# Altium schematic symbol library WA-SMSI_M2 Thread Internal.SchLib: 24 symbols
Pins are listed as number, name and electrical type; pins without a type are passive.

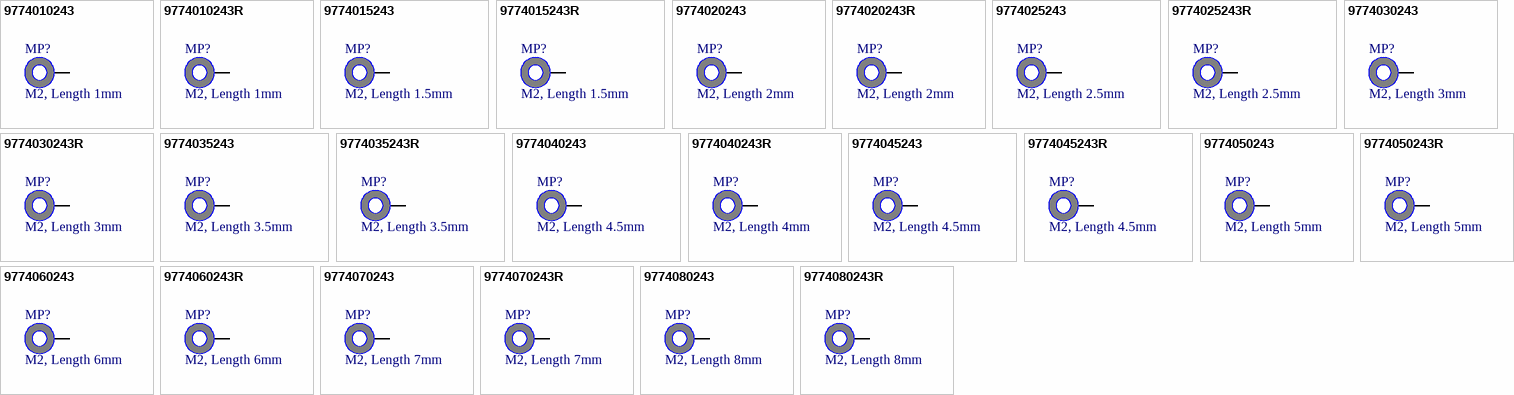
[diagram p0: symbols 9774010243 to 9774080243R]

## 9774010243
designator MP?, comment M2, Length 1mm
WA-SMSI SMT Steel Spacer, M2 Thread Internal, Length 1mm; PartNumber: 9774010243; InnerDiameter: 2.8mm; OuterDiameter: 4.35mm; PublishedDate: Dec. 2016; Publisher: Wurth Elektronik; ComponentLink1Description: Manufacturer; ComponentLink1URL: http://www.we-online.de; ComponentLink2Description: Datasheet; ComponentLink2URL: http://katalog.we-online.de/em/datasheet/9774010243.pdf; Length: 1mm; Thread: M2; Packaging: Bulk
footprint 9774010243
pins: 1

## 9774010243R
designator MP?, comment M2, Length 1mm
WA-SMSI SMT Steel Spacer, M2 Thread Internal, Length 1mm; PartNumber: 9774010243R; InnerDiameter: 2.8mm; OuterDiameter: 4.35mm; PublishedDate: Dec. 2016; Publisher: Wurth Elektronik; ComponentLink1Description: Manufacturer; ComponentLink1URL: http://www.we-online.de; ComponentLink2Description: Datasheet; ComponentLink2URL: http://katalog.we-online.de/em/datasheet/9774010243R.pdf; Length: 1mm; Thread: M2; Packaging: Tape and Reel
footprint 9774010243
pins: 1

## 9774015243
designator MP?, comment M2, Length 1.5mm
WA-SMSI SMT Steel Spacer, M2 Thread Internal, Length 1.5mm; PartNumber: 9774015243; InnerDiameter: 2.8mm; OuterDiameter: 4.35mm; PublishedDate: Dec. 2016; Publisher: Wurth Elektronik; ComponentLink1Description: Manufacturer; ComponentLink1URL: http://www.we-online.de; ComponentLink2Description: Datasheet; ComponentLink2URL: http://katalog.we-online.de/em/datasheet/9774015243.pdf; Length: 1.5mm; Thread: M2; Packaging: Bulk
footprint 9774015243
pins: 1

## 9774015243R
designator MP?, comment M2, Length 1.5mm
WA-SMSI SMT Steel Spacer, M2 Thread Internal, Length 1.5mm; PartNumber: 9774015243R; InnerDiameter: 2.8mm; OuterDiameter: 4.35mm; PublishedDate: Dec. 2016; Publisher: Wurth Elektronik; ComponentLink1Description: Manufacturer; ComponentLink1URL: http://www.we-online.de; ComponentLink2Description: Datasheet; ComponentLink2URL: http://katalog.we-online.de/em/datasheet/9774015243R.pdf; Length: 1.5mm; Thread: M2; Packaging: Tape and Reel
footprint 9774015243
pins: 1

## 9774020243
designator MP?, comment M2, Length 2mm
WA-SMSI SMT Steel Spacer, M2 Thread Internal, Length 2mm; PartNumber: 9774020243; InnerDiameter: 2.8mm; OuterDiameter: 4.35mm; PublishedDate: Dec. 2016; Publisher: Wurth Elektronik; ComponentLink1Description: Manufacturer; ComponentLink1URL: http://www.we-online.de; ComponentLink2Description: Datasheet; ComponentLink2URL: http://katalog.we-online.de/em/datasheet/9774020243.pdf; Length: 2mm; Thread: M2; Packaging: Bulk
footprint 9774020243
pins: 1

## 9774020243R
designator MP?, comment M2, Length 2mm
WA-SMSI SMT Steel Spacer, M2 Thread Internal, Length 2mm; PartNumber: 9774020243R; InnerDiameter: 2.8mm; OuterDiameter: 4.35mm; PublishedDate: Dec. 2016; Publisher: Wurth Elektronik; ComponentLink1Description: Manufacturer; ComponentLink1URL: http://www.we-online.de; ComponentLink2Description: Datasheet; ComponentLink2URL: http://katalog.we-online.de/em/datasheet/9774020243R.pdf; Length: 2mm; Thread: M2; Packaging: Tape and Reel
footprint 9774020243
pins: 1

## 9774025243
designator MP?, comment M2, Length 2.5mm
WA-SMSI SMT Steel Spacer, M2 Thread Internal, Length 2.5mm; PartNumber: 9774025243; InnerDiameter: 2.8mm; OuterDiameter: 4.35mm; PublishedDate: Dec. 2016; Publisher: Wurth Elektronik; ComponentLink1Description: Manufacturer; ComponentLink1URL: http://www.we-online.de; ComponentLink2Description: Datasheet; ComponentLink2URL: http://katalog.we-online.de/em/datasheet/9774025243.pdf; Length: 2.5mm; Thread: M2; Packaging: Bulk
footprint 9774025243
pins: 1

## 9774025243R
designator MP?, comment M2, Length 2.5mm
WA-SMSI SMT Steel Spacer, M2 Thread Internal, Length 2.5mm; PartNumber: 9774025243R; InnerDiameter: 2.8mm; OuterDiameter: 4.35mm; PublishedDate: Dec. 2016; Publisher: Wurth Elektronik; ComponentLink1Description: Manufacturer; ComponentLink1URL: http://www.we-online.de; ComponentLink2Description: Datasheet; ComponentLink2URL: http://katalog.we-online.de/em/datasheet/9774025243R.pdf; Length: 2.5mm; Thread: M2; Packaging: Tape and Reel
footprint 9774025243
pins: 1

## 9774030243
designator MP?, comment M2, Length 3mm
WA-SMSI SMT Steel Spacer, M2 Thread Internal, Length 3mm; PartNumber: 9774030243; InnerDiameter: 2.8mm; OuterDiameter: 4.35mm; PublishedDate: Dec. 2016; Publisher: Wurth Elektronik; ComponentLink1Description: Manufacturer; ComponentLink1URL: http://www.we-online.de; ComponentLink2Description: Datasheet; ComponentLink2URL: http://katalog.we-online.de/em/datasheet/9774030243.pdf; Length: 3mm; Thread: M2; Packaging: Bulk
footprint 9774030243
pins: 1

## 9774030243R
designator MP?, comment M2, Length 3mm
WA-SMSI SMT Steel Spacer, M2 Thread Internal, Length 3mm; PartNumber: 9774030243R; InnerDiameter: 2.8mm; OuterDiameter: 4.35mm; PublishedDate: Dec. 2016; Publisher: Wurth Elektronik; ComponentLink1Description: Manufacturer; ComponentLink1URL: http://www.we-online.de; ComponentLink2Description: Datasheet; ComponentLink2URL: http://katalog.we-online.de/em/datasheet/9774030243R.pdf; Length: 3mm; Thread: M2; Packaging: Tape and Reel
footprint 9774030243
pins: 1

## 9774035243
designator MP?, comment M2, Length 3.5mm
WA-SMSI SMT Steel Spacer, M2 Thread Internal, Length 3.5mm; PartNumber: 9774035243; InnerDiameter: 2.8mm; OuterDiameter: 4.35mm; PublishedDate: Dec. 2016; Publisher: Wurth Elektronik; ComponentLink1Description: Manufacturer; ComponentLink1URL: http://www.we-online.de; ComponentLink2Description: Datasheet; ComponentLink2URL: http://katalog.we-online.de/em/datasheet/9774035243.pdf; Length: 3.5mm; Thread: M2; Packaging: Bulk
footprint 9774035243
pins: 1

## 9774035243R
designator MP?, comment M2, Length 3.5mm
WA-SMSI SMT Steel Spacer, M2 Thread Internal, Length 3.5mm; PartNumber: 9774035243R; InnerDiameter: 2.8mm; OuterDiameter: 4.35mm; PublishedDate: Dec. 2016; Publisher: Wurth Elektronik; ComponentLink1Description: Manufacturer; ComponentLink1URL: http://www.we-online.de; ComponentLink2Description: Datasheet; ComponentLink2URL: http://katalog.we-online.de/em/datasheet/9774035243R.pdf; Length: 3.5mm; Thread: M2; Packaging: Tape and Reel
footprint 9774035243
pins: 1

## 9774040243
designator MP?, comment M2, Length 4.5mm
WA-SMSI SMT Steel Spacer, M2 Thread Internal, Length 4mm; PartNumber: 9774040243; InnerDiameter: 2.8mm; OuterDiameter: 4.35mm; PublishedDate: Dec. 2016; Publisher: Wurth Elektronik; ComponentLink1Description: Manufacturer; ComponentLink1URL: http://www.we-online.de; ComponentLink2Description: Datasheet; ComponentLink2URL: http://katalog.we-online.de/em/datasheet/9774040243.pdf; Length: 4mm; Thread: M2; Packaging: Bulk
footprint 9774040243
pins: 1

## 9774040243R
designator MP?, comment M2, Length 4mm
WA-SMSI SMT Steel Spacer, M2 Thread Internal, Length 4mm; PartNumber: 9774040243R; InnerDiameter: 2.8mm; OuterDiameter: 4.35mm; PublishedDate: Dec. 2016; Publisher: Wurth Elektronik; ComponentLink1Description: Manufacturer; ComponentLink1URL: http://www.we-online.de; ComponentLink2Description: Datasheet; ComponentLink2URL: http://katalog.we-online.de/em/datasheet/9774040243R.pdf; Length: 4mm; Thread: M2; Packaging: Tape and Reel
footprint 9774040243
pins: 1

## 9774045243
designator MP?, comment M2, Length 4.5mm
WA-SMSI SMT Steel Spacer, M2 Thread Internal, Length 4.5mm; PartNumber: 9774045243; InnerDiameter: 2.8mm; OuterDiameter: 4.35mm; PublishedDate: Dec. 2016; Publisher: Wurth Elektronik; ComponentLink1Description: Manufacturer; ComponentLink1URL: http://www.we-online.de; ComponentLink2Description: Datasheet; ComponentLink2URL: http://katalog.we-online.de/em/datasheet/9774045243.pdf; Length: 4.5mm; Thread: M2; Packaging: Bulk
footprint 9774045243
pins: 1

## 9774045243R
designator MP?, comment M2, Length 4.5mm
WA-SMSI SMT Steel Spacer, M2 Thread Internal, Length 4.5mm; PartNumber: 9774045243R; InnerDiameter: 2.8mm; OuterDiameter: 4.35mm; PublishedDate: Dec. 2016; Publisher: Wurth Elektronik; ComponentLink1Description: Manufacturer; ComponentLink1URL: http://www.we-online.de; ComponentLink2Description: Datasheet; ComponentLink2URL: http://katalog.we-online.de/em/datasheet/9774045243R.pdf; Length: 4.5mm; Thread: M2; Packaging: Tape and Reel
footprint 9774045243
pins: 1

## 9774050243
designator MP?, comment M2, Length 5mm
WA-SMSI SMT Steel Spacer, M2 Thread Internal, Length 5mm; PartNumber: 9774050243; InnerDiameter: 2.8mm; OuterDiameter: 4.35mm; PublishedDate: Dec. 2016; Publisher: Wurth Elektronik; ComponentLink1Description: Manufacturer; ComponentLink1URL: http://www.we-online.de; ComponentLink2Description: Datasheet; ComponentLink2URL: http://katalog.we-online.de/em/datasheet/9774050243.pdf; Length: 5mm; Thread: M2; Packaging: Bulk
footprint 9774050243
pins: 1

## 9774050243R
designator MP?, comment M2, Length 5mm
WA-SMSI SMT Steel Spacer, M2 Thread Internal, Length 5mm; PartNumber: 9774050243R; InnerDiameter: 2.8mm; OuterDiameter: 4.35mm; PublishedDate: Dec. 2016; Publisher: Wurth Elektronik; ComponentLink1Description: Manufacturer; ComponentLink1URL: http://www.we-online.de; ComponentLink2Description: Datasheet; ComponentLink2URL: http://katalog.we-online.de/em/datasheet/9774050243R.pdf; Length: 5mm; Thread: M2; Packaging: Tape and Reel
footprint 9774050243
pins: 1

## 9774060243
designator MP?, comment M2, Length 6mm
WA-SMSI SMT Steel Spacer, M2 Thread Internal, Length 6mm; PartNumber: 9774060243; InnerDiameter: 2.8mm; OuterDiameter: 4.35mm; PublishedDate: Dec. 2016; Publisher: Wurth Elektronik; ComponentLink1Description: Manufacturer; ComponentLink1URL: http://www.we-online.de; ComponentLink2Description: Datasheet; ComponentLink2URL: http://katalog.we-online.de/em/datasheet/9774060243.pdf; Length: 6mm; Thread: M2; Packaging: Bulk
footprint 9774060243
pins: 1

## 9774060243R
designator MP?, comment M2, Length 6mm
WA-SMSI SMT Steel Spacer, M2 Thread Internal, Length 6mm; PartNumber: 9774060243R; InnerDiameter: 2.8mm; OuterDiameter: 4.35mm; PublishedDate: Dec. 2016; Publisher: Wurth Elektronik; ComponentLink1Description: Manufacturer; ComponentLink1URL: http://www.we-online.de; ComponentLink2Description: Datasheet; ComponentLink2URL: http://katalog.we-online.de/em/datasheet/9774060243R.pdf; Length: 6mm; Thread: M2; Packaging: Tape and Reel
footprint 9774060243
pins: 1

## 9774070243
designator MP?, comment M2, Length 7mm
WA-SMSI SMT Steel Spacer, M2 Thread Internal, Length 7mm; PartNumber: 9774070243; InnerDiameter: 2.8mm; OuterDiameter: 4.35mm; PublishedDate: Dec. 2016; Publisher: Wurth Elektronik; ComponentLink1Description: Manufacturer; ComponentLink1URL: http://www.we-online.de; ComponentLink2Description: Datasheet; ComponentLink2URL: http://katalog.we-online.de/em/datasheet/9774070243.pdf; Length: 7mm; Thread: M2; Packaging: Bulk
footprint 9774070243
pins: 1

## 9774070243R
designator MP?, comment M2, Length 7mm
WA-SMSI SMT Steel Spacer, M2 Thread Internal, Length 7mm; PartNumber: 9774070243R; InnerDiameter: 2.8mm; OuterDiameter: 4.35mm; PublishedDate: Dec. 2016; Publisher: Wurth Elektronik; ComponentLink1Description: Manufacturer; ComponentLink1URL: http://www.we-online.de; ComponentLink2Description: Datasheet; ComponentLink2URL: http://katalog.we-online.de/em/datasheet/9774070243R.pdf; Length: 7mm; Thread: M2; Packaging: Tape and Reel
footprint 9774070243
pins: 1

## 9774080243
designator MP?, comment M2, Length 8mm
WA-SMSI SMT Steel Spacer, M2 Thread Internal, Length 8mm; PartNumber: 9774080243; InnerDiameter: 2.8mm; OuterDiameter: 4.35mm; PublishedDate: Dec. 2016; Publisher: Wurth Elektronik; ComponentLink1Description: Manufacturer; ComponentLink1URL: http://www.we-online.de; ComponentLink2Description: Datasheet; ComponentLink2URL: http://katalog.we-online.de/em/datasheet/9774080243.pdf; Length: 8mm; Thread: M2; Packaging: Bulk
footprint 9774080243
pins: 1

## 9774080243R
designator MP?, comment M2, Length 8mm
WA-SMSI SMT Steel Spacer, M2 Thread Internal, Length 8mm; PartNumber: 9774080243R; InnerDiameter: 2.8mm; OuterDiameter: 4.35mm; PublishedDate: Dec. 2016; Publisher: Wurth Elektronik; ComponentLink1Description: Manufacturer; ComponentLink1URL: http://www.we-online.de; ComponentLink2Description: Datasheet; ComponentLink2URL: http://katalog.we-online.de/em/datasheet/9774080243R.pdf; Length: 8mm; Thread: M2; Packaging: Tape and Reel
footprint 9774080243
pins: 1